# EAGLE library part PINHD-3X3 (library 25pinhead)
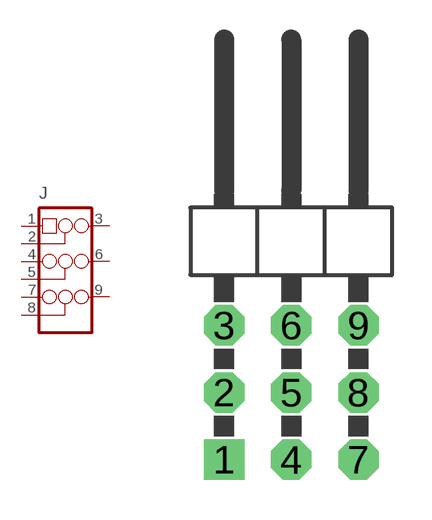
[diagram p51: symbol with the pads of 3X03/90; footprint 3X03/90]

Designator prefix J

## PINHD-3X3/90  [3X03/90]
1  1  pas
2  2  pas
3  3  pas
4  4  pas
5  5  pas
6  6  pas
7  7  pas
8  8  pas
9  9  pas

## Footprint 3X03/90 (pad centres in mm)
drill 1.016 square: 1 -2.54,-7.62
drill 1.016 octagon: 2 -2.54,-5.08; 3 -2.54,-2.54; 4 0,-7.62; 5 0,-5.08; 6 0,-2.54; 7 2.54,-7.62; 8 2.54,-5.08; 9 2.54,-2.54